# EAGLE library part POLOLU_TB6612FNG (library CMU-ArtFab)
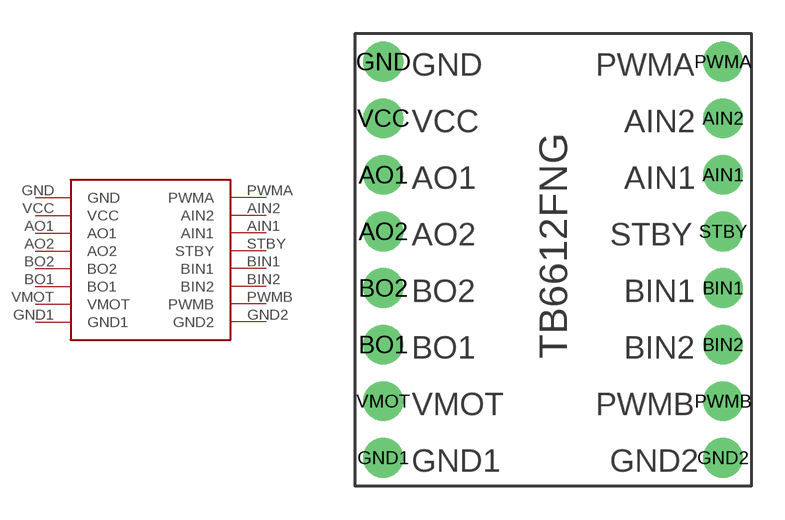
[diagram p19: symbol with the pads of POLOLU_TB6612FNG; footprint POLOLU_TB6612FNG]

Designator prefix -

## POLOLU_TB6612FNG  [POLOLU_TB6612FNG]
AIN1  AIN1
AIN2  AIN2
AO1  AO1
AO2  AO2
BIN1  BIN1
BIN2  BIN2
BO1  BO1
BO2  BO2
GND  GND
GND1  GND1
GND2  GND2
PWMA  PWMA
PWMB  PWMB
STBY  STBY
VCC  VCC
VMOT  VMOT

## Footprint POLOLU_TB6612FNG (pad centres in mm)
drill 0.8 pad 1.778: AIN1 7.62,3.81; AIN2 7.62,6.35; AO1 -7.62,3.81; AO2 -7.62,1.27; BIN1 7.62,-1.27; BIN2 7.62,-3.81; BO1 -7.62,-3.81; BO2 -7.62,-1.27; GND -7.62,8.89; GND1 -7.62,-8.89; GND2 7.62,-8.89; PWMA 7.62,8.89; PWMB 7.62,-6.35; STBY 7.62,1.27; VCC -7.62,6.35; VMOT -7.62,-6.35